# Altium schematic symbol library Tempature Sensor.SchLib: 9 symbols
Pins are listed as number, name and electrical type; pins without a type are passive.

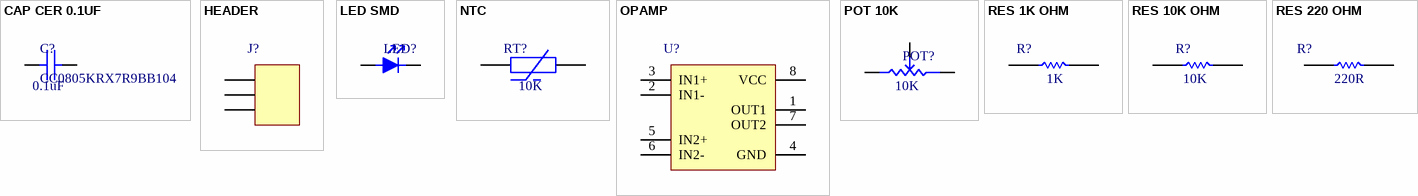
[diagram p0: symbols CAP CER 0.1UF to RES 220 OHM]

## CAP CER 0.1UF
designator C?, comment CC0805KRX7R9BB104  value 0.1uF
CAP CER 0.1UF 50V X7R 0805
footprint CAP_0805
pins: 1, 2

## HEADER
designator J?, comment 61300311121  (value not drawn)
CONN HEADER 3POS 2.54MM
footprint HEADER
pins: 1, 2, 3

## LED SMD
designator LED?, comment 150080RS75000  (value not drawn)
LED RED 0805 SMD
footprint LED_0805
pins: 1, 2

## NTC
designator RT?, comment value 10K  (hidden comment: B57164K0103J000)
THERMISTOR NTC 10KOHM 4300K
footprint NTC
pins: 1, 2

## OPAMP
designator U?, comment LM358S-13  (value not drawn)
IC OPAMP GP 2 CIRCUIT 8SO
footprint SO-8
pins: 1 OUT1, 2 IN1-, 3 IN1+, 4 GND, 5 IN2+, 6 IN2-, 7 OUT2, 8 VCC

## POT 10K
designator POT?, comment value 10K  (hidden comment: PV36W103C01B00)
TRIMMER 10K OHM 0.5W
footprint TRIMMER
pins: 1, 2, 3

## RES 1K OHM
designator R?, comment value 1K  (hidden comment: RC0805JR-071KL)
RES 1K OHM 5% 1/8W 0805
footprint RES_0805
pins: 1, 2

## RES 10K OHM
designator R?, comment value 10K  (hidden comment: RC0805JR-0710KL)
RES 10K OHM 5% 1/8W 0805
footprint RES_0805
pins: 1, 2

## RES 220 OHM
designator R?, comment value 220R  (hidden comment: RC0805JR-07220RL)
RES 220 OHM 5% 1/8W 0805
footprint RES_0805
pins: 1, 2